# Altium schematic symbol library Connectors.SchLib: 31 symbols
Pins are listed as number, name and electrical type; pins without a type are passive.

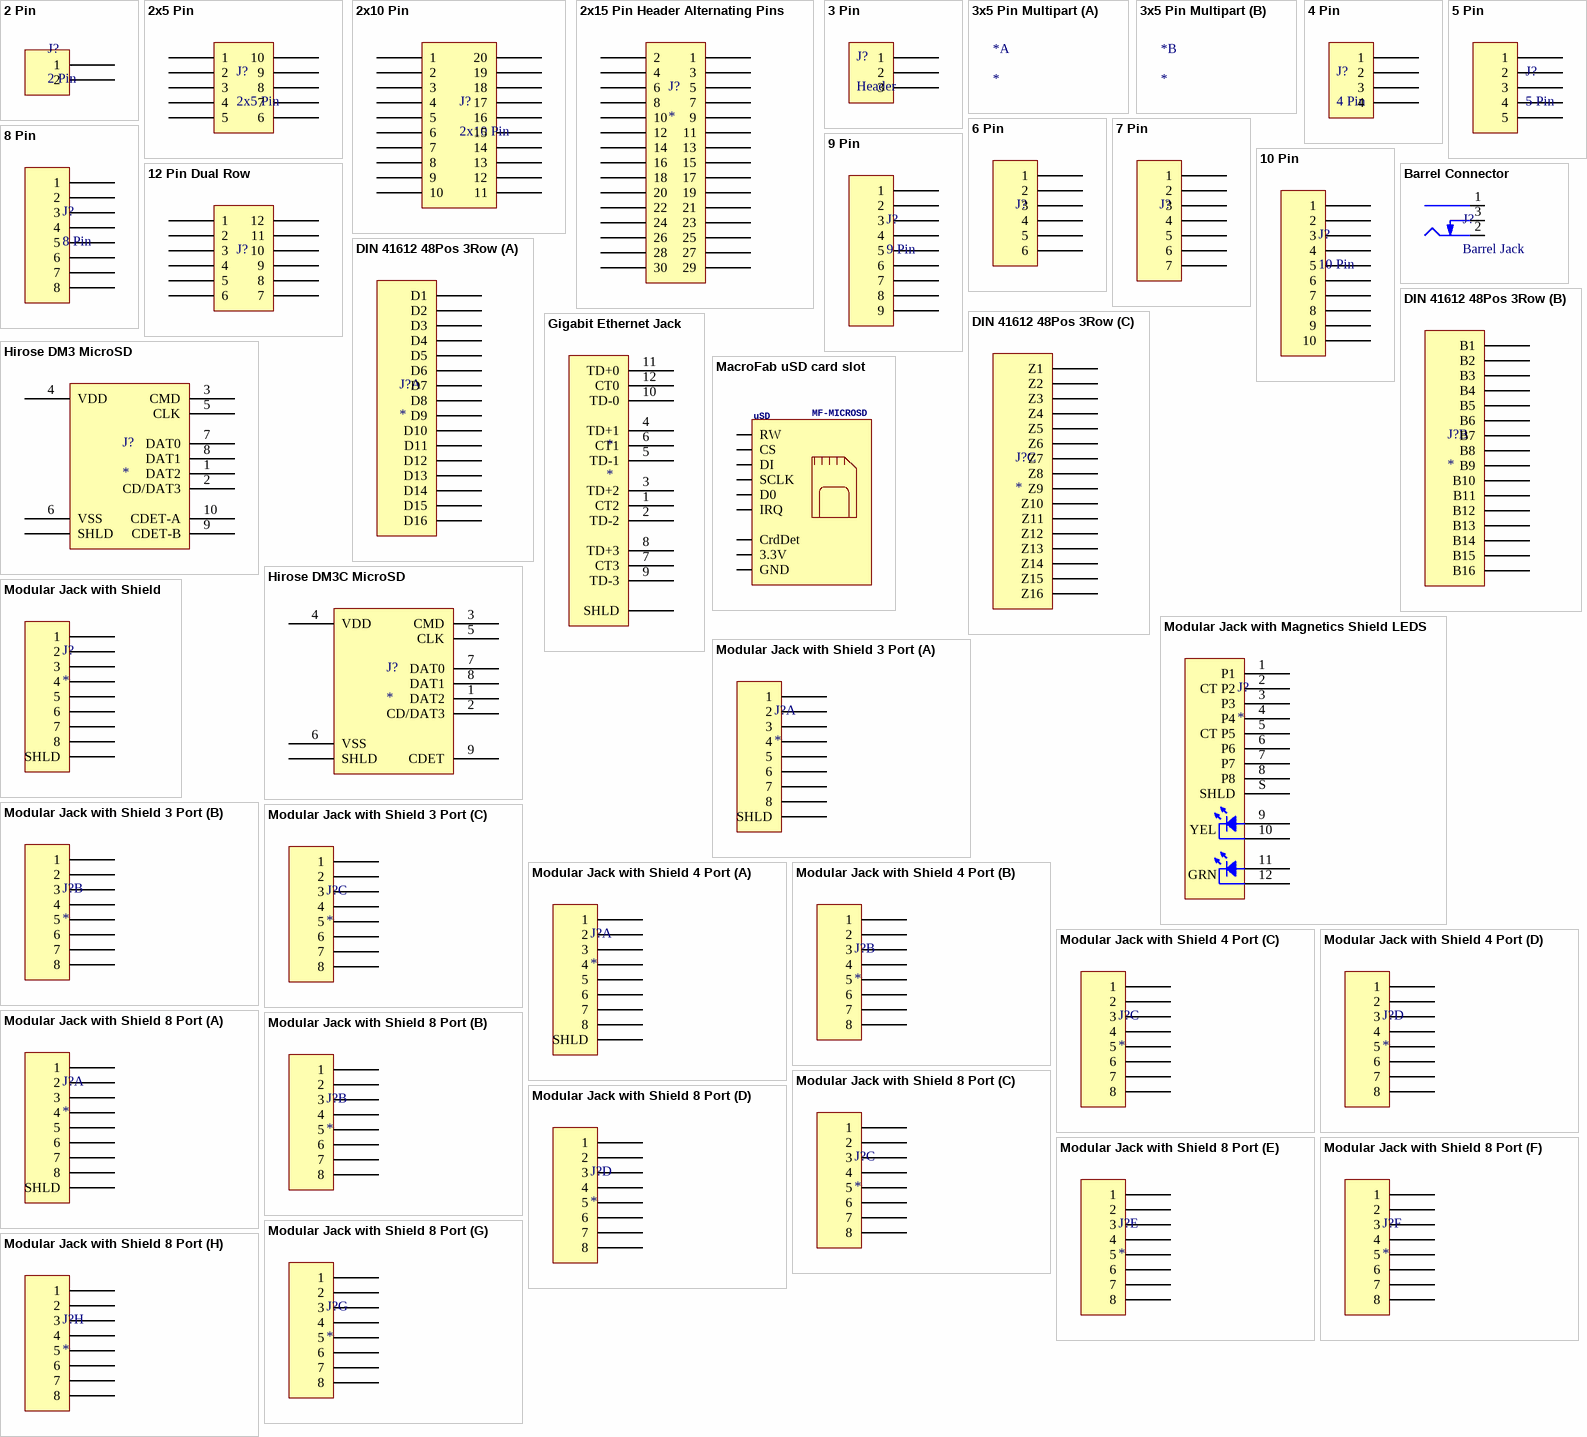
[diagram p0: symbols 2 Pin to Modular Jack with Shield 8 Port]

## 2 Pin
designator J?
pins: 1, 2

## 2x5 Pin
designator J?
pins: 1, 2, 3, 4, 5, 6, 7, 8, 9, 10

## 2x10 Pin
designator J?
pins: 1, 2, 3, 4, 5, 6, 7, 8, 9, 10, 11, 12, 13, 14, 15, 16, 17, 18, 19, 20

## 2x15 Pin Header Alternating Pins
designator J?
pins: 1, 2, 3, 4, 5, 6, 7, 8, 9, 10, 11, 12, 13, 14, 15, 16, 17, 18, 19, 20, 21, 22, 23, 24, 25, 26, 27, 28, 29, 30

## 3 Pin
designator J?, comment Header
pins: 1, 2, 3

## 3x5 Pin Multipart
designator *

## 4 Pin
designator J?
pins: 1, 2, 3, 4

## 5 Pin
designator J?
pins: 1, 2, 3, 4, 5

## 6 Pin
designator J?
pins: 1, 2, 3, 4, 5, 6

## 7 Pin
designator J?
pins: 1, 2, 3, 4, 5, 6, 7

## 8 Pin
designator J?
pins: 1, 2, 3, 4, 5, 6, 7, 8

## 9 Pin
designator J?
pins: 1, 2, 3, 4, 5, 6, 7, 8, 9

## 10 Pin
designator J?
pins: 1, 2, 3, 4, 5, 6, 7, 8, 9, 10

## 12 Pin Dual Row
designator J?
pins: 1, 2, 3, 4, 5, 6, 7, 8, 9, 10, 11, 12

## Barrel Connector
designator J?, comment Barrel Jack
pins: 1 Centre, 2 Outer, 3 SW

## DIN 41612 48Pos 3Row
designator J?
part A pins: D1, D2, D3, D4, D5, D6, D7, D8, D9, D10, D11, D12, D13, D14, D15, D16
part B pins: B1, B2, B3, B4, B5, B6, B7, B8, B9, B10, B11, B12, B13, B14, B15, B16
part C pins: Z1, Z2, Z3, Z4, Z5, Z6, Z7, Z8, Z9, Z10, Z11, Z12, Z13, Z14, Z15, Z16

## Gigabit Ethernet Jack
designator *
pins: 1 CT2, 2 TD-2, 3 TD+2, 4 TD+1, 5 TD-1, 6 CT1, 7 CT3, 8 TD+3, 9 TD-3, 10 TD-0, 11 TD+0, 12 CT0, S SHLD

## Hirose DM3 MicroSD
designator J?
pins: 1 DAT2, 2 CD/DAT3, 3 CMD, 4 VDD, 5 CLK, 6 VSS, 7 DAT0, 8 DAT1, 9 CDET-B, 10 CDET-A, S SHLD

## Hirose DM3C MicroSD
designator J?
pins: 1 DAT2, 2 CD/DAT3, 3 CMD, 4 VDD, 5 CLK, 6 VSS, 7 DAT0, 8 DAT1, 9 CDET, S SHLD

## MacroFab uSD card slot
designator uSD, comment MF-MICROSD
HOUSEPART: YES; SymbolName_1: SD_CARD; DeviceName: _MICRO_RIGHT; DeviceSetName: SD_CARD_SLOT; POPULATE: 1; MPN: MF-MICROSD; URL: https://factory.macrofab.com/part/MF-MICROSD
footprint MF-MICROSD
pins: 1 RW, 2 CS, 3 DI, 3.3V (power), 5 SCLK, 7 D0, 8 IRQ, CrdDet, GND (power)

## Modular Jack with Magnetics Shield LEDS
designator J?
pins: 1 P1, 2 CT P2, 3 P3, 4 P4, 5 CT P5, 6 P6, 7 P7, 8 P8, 9 P9, 10 P10, 11 P11, 12 P12, S SHLD
text: YEL; GRN

## Modular Jack with Shield
designator J?
pins: 1, 2, 3, 4, 5, 6, 7, 8, S SHLD

## Modular Jack with Shield 3 Port
designator J?
part A pins: A1 1, A2 2, A3 3, A4 4, A5 5, A6 6, A7 7, A8 8, S SHLD
part B pins: B1 1, B2 2, B3 3, B4 4, B5 5, B6 6, B7 7, B8 8
part C pins: C1 1, C2 2, C3 3, C4 4, C5 5, C6 6, C7 7, C8 8

## Modular Jack with Shield 4 Port
designator J?
part A pins: A1 1, A2 2, A3 3, A4 4, A5 5, A6 6, A7 7, A8 8, S SHLD
part B pins: B1 1, B2 2, B3 3, B4 4, B5 5, B6 6, B7 7, B8 8
part C pins: C1 1, C2 2, C3 3, C4 4, C5 5, C6 6, C7 7, C8 8
part D pins: D1 1, D2 2, D3 3, D4 4, D5 5, D6 6, D7 7, D8 8

## Modular Jack with Shield 8 Port
designator J?
part A pins: A1 1, A2 2, A3 3, A4 4, A5 5, A6 6, A7 7, A8 8, S SHLD
part B pins: B1 1, B2 2, B3 3, B4 4, B5 5, B6 6, B7 7, B8 8
part C pins: C1 1, C2 2, C3 3, C4 4, C5 5, C6 6, C7 7, C8 8
part D pins: D1 1, D2 2, D3 3, D4 4, D5 5, D6 6, D7 7, D8 8
part E pins: E1 1, E2 2, E3 3, E4 4, E5 5, E6 6, E7 7, E8 8
part F pins: F1 1, F2 2, F3 3, F4 4, F5 5, F6 6, F7 7, F8 8
part G pins: G1 1, G2 2, G3 3, G4 4, G5 5, G6 6, G7 7, G8 8
part H pins: H1 1, H2 2, H3 3, H4 4, H5 5, H6 6, H7 7, H8 8

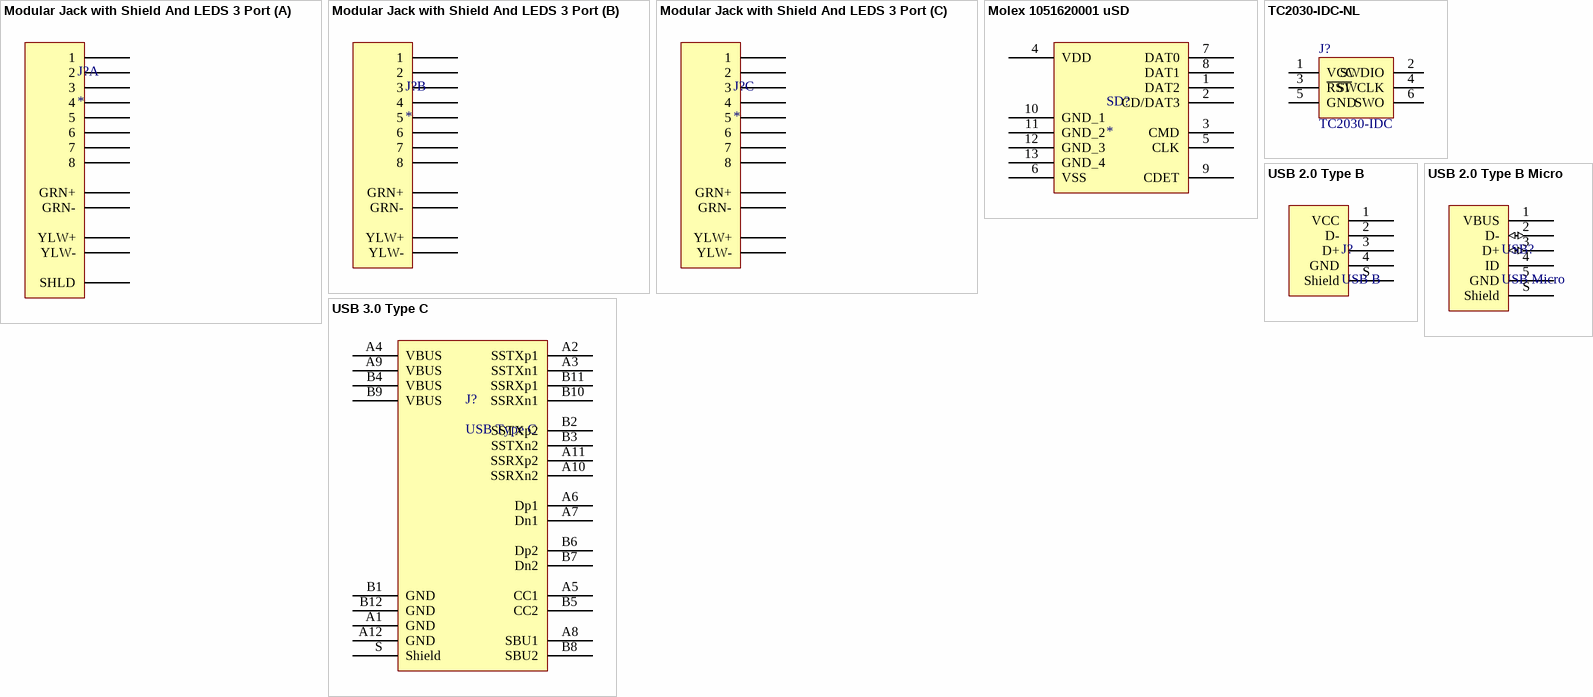
[diagram p1: symbols Modular Jack with Shield And LEDS 3 Port to USB 3.0 Type C]

## Modular Jack with Shield And LEDS 3 Port
designator J?
part A pins: A1 1, A2 2, A3 3, A4 4, A5 5, A6 6, A7 7, A8 8, A9 GRN-, A10 GRN+, A11 YLW-, A12 YLW+, S SHLD
part B pins: B1 1, B2 2, B3 3, B4 4, B5 5, B6 6, B7 7, B8 8, B9 GRN-, B10 GRN+, B11 YLW-, B12 YLW+
part C pins: C1 1, C2 2, C3 3, C4 4, C5 5, C6 6, C7 7, C8 8, C9 GRN-, C10 GRN+, C11 YLW-, C12 YLW+

## Molex 1051620001 uSD
designator SD?
1.45H MICRO SD HEADER WITH D/C P
footprint Molex 1051620001 (1.45H MICRO SD HEADER WITH D/C P)
pins: 1 DAT2, 2 CD/DAT3, 3 CMD, 4 VDD, 5 CLK, 6 VSS, 7 DAT0, 8 DAT1, 9 CDET, 10 GND_1, 11 GND_2, 12 GND_3, 13 GND_4

## TC2030-IDC-NL
designator J?, comment TC2030-IDC  (no BOM)
CABLE ADAPTER 6 POS; Manufacturer: Tag-Connect LLC; Manufacturer Part Number: TC2030-IDC; hyperlink: https://www.digikey.com/product-detail/en/tag-connect-llc/TC2030-IDC/TC2030-IDC-ND/4571121
footprint TC2030-IDC
footprint PINHEAD127_1x5 (1.27mm pitch pin header)
pins: 1 VCC, 2 SWDIO, 3 ~{RST}, 4 SWCLK, 5 GND, 6 SWO

## USB 2.0 Type B
designator J?, comment USB B
pins: 1 VCC, 2 D-, 3 D+, 4 GND, S Shield

## USB 2.0 Type B Micro
designator USB?, comment USB Micro
pins: 1 VBUS (power), 2 D- (io), 3 D+ (io), 4 ID, 5 GND (power), S Shield

## USB 3.0 Type C
designator J?, comment USB Type C
pins: A1 GND, A2 SSTXp1, A3 SSTXn1, A4 VBUS, A5 CC1, A6 Dp1, A7 Dn1, A8 SBU1, A9 VBUS, A10 SSRXn2, A11 SSRXp2, A12 GND, B1 GND, B2 SSTXp2, B3 SSTXn2, B4 VBUS, B5 CC2, B6 Dp2, B7 Dn2, B8 SBU2, B9 VBUS, B10 SSRXn1, B11 SSRXp1, B12 GND, S Shield